# Altium footprint library LED.PcbLib: 5 footprints
Each footprint in its own frame and in the unit in brackets; x right, y up, seen from the top. Pads: shape width x height; smd on the part's side, far side on the other; paste and mask are expansions set on the pad; w line width, h text height; cw(c..) or ccw(c..) is an arc to the next point about the centre after c.
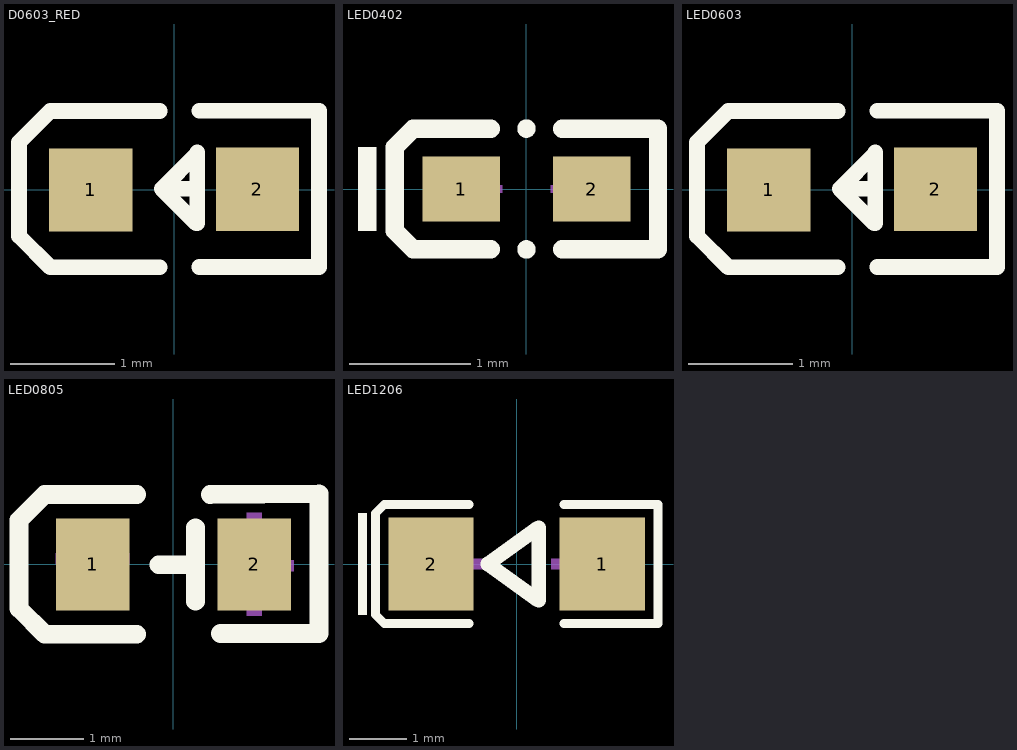
[diagram p0: the footprints below, top view; thin cyan lines are the x and y axes]

## D0603_RED [mm]
pads (2):
  rect 0.8x0.8 smd paste+0 mask+0.051: 1(-0.799,-0.004) 2(0.799,0.004)
Top Overlay:
  lines w0.15: -0.14,-0.746 -1.19,-0.746 -1.49,-0.446 -1.49,-0.346 -1.49,0.354 -1.49,0.454 -1.19,0.754 -0.14,0.754 ; 0.22,0.007 -0.12,0.007 ; 0.24,-0.744 1.39,-0.744 ; 0.24,0.757 1.39,0.757 1.39,-0.723 ; -0.12,0.007 0.21,-0.324 0.22,-0.324 0.22,0.357 0.22,0.347 -0.12,0.007
Mechanical 15:
  region: 0.529,0.068 1.069,0.068 1.069,-0.062 0.529,-0.062
  region: 0.735,-0.267 0.735,0.273 0.865,0.273 0.865,-0.267
  region: -1.07,0.061 -0.53,0.061 -0.53,-0.069 -1.07,-0.069
3D body "LED_0603_RED.step": height 0.55, standoff 0, extent -0.8,-0.4 0.8,0.4

## LED0402 [mm]
pads (2):
  rect 0.636x0.54 smd paste-100 mask+0.051: 1(-0.538,0) 2(0.538,0)
Top Overlay:
  circle w0.076: c0,0.499 r0.038
  circle w0.076: c0,-0.499 r0.038
  region: -1.237,-0.346 -1.237,0.346 -1.39,0.346 -1.39,-0.346
  lines w0.152: -0.296,-0.499 -0.933,-0.499 -1.085,-0.346 -1.085,0.346 -0.933,0.499 -0.296,0.499 ; 0.296,-0.499 1.085,-0.499 1.085,0.499 0.296,0.499
Top Paste:
  region: -0.198,-0.23 -0.198,0.23 -0.238,0.27 -0.816,0.27 -0.856,0.23 -0.856,-0.23 -0.816,-0.27 -0.238,-0.27
  region: 0.198,-0.23 0.198,0.23 0.238,0.27 0.816,0.27 0.856,0.23 0.856,-0.23 0.816,-0.27 0.238,-0.27
Mechanical 15:
  region: 0.35,-0.2 0.35,0.2 0.29,0.2 0.29,-0.2
  region: 0.44,-0.03 0.44,0.03 0.2,0.03 0.2,-0.03
  region: -0.44,-0.03 -0.44,0.03 -0.2,0.03 -0.2,-0.03
3D body "LED0402.STEP": height 0.5, standoff 0, extent -0.5,-0.25 0.5,0.25

## LED0603 [mm]
pads (2):
  rect 0.8x0.8 smd paste+0 mask+0.051: 1(-0.799,-0.004) 2(0.799,0.004)
Top Overlay:
  lines w0.15: -0.14,-0.746 -1.19,-0.746 -1.49,-0.446 -1.49,-0.346 -1.49,0.354 -1.49,0.454 -1.19,0.754 -0.14,0.754 ; 0.22,0.007 -0.12,0.007 ; 0.24,-0.744 1.39,-0.744 ; 0.24,0.757 1.39,0.757 1.39,-0.723 ; -0.12,0.007 0.22,0.347 0.22,0.357 0.22,-0.324 0.21,-0.324 -0.12,0.007
Mechanical 15:
  region: -1.07,0.061 -0.53,0.061 -0.53,-0.069 -1.07,-0.069
  region: 0.735,-0.267 0.735,0.273 0.865,0.273 0.865,-0.267
  region: 0.529,0.068 1.069,0.068 1.069,-0.062 0.529,-0.062
3D body "LED0603.STEP": height 0.7, standoff 0, extent -0.8,-0.419 0.8,0.381

## LED0805 [mm]
pads (2):
  rect 1x1.25 smd paste+0 mask+0.051: 1(-1.1,0) 2(1.1,0)
Top Overlay:
  lines w0.254: -0.5,-0.95 -1.75,-0.95 ; -0.5,0.95 -1.75,0.95 ; -0.2,-0.005 0.3,-0.005 ; 0.3,-0.5 0.3,0.5 ; 0.5,0.95 1.98,0.96 1.98,-0.94 0.64,-0.94 ; -1.75,-0.95 -1.75,-0.95 ; -1.75,-0.95 -2.1,-0.6 -2.1,0.6 -1.75,0.95 ; -1.75,0.95 -1.75,0.95
Mechanical 15:
  region: 1,0.7 1.2,0.7 1.2,-0.7 1,-0.7
  region: 0.635,-0.094 1.635,-0.094 1.635,0.056 0.635,0.056
  region: -1.6,0 -0.6,0 -0.6,0.15 -1.6,0.15
3D body "LED0805.STEP": height 0.7, standoff 0, extent -1,-0.625 1,0.625

## LED1206 [mm]
pads (2):
  rect 1.485x1.62 smd paste-100 mask+0.051: 1(1.493,0) 2(-1.493,0)
Top Overlay:
  region: -2.616,-0.886 -2.616,0.886 -2.768,0.886 -2.768,-0.886
  lines w0.152: -0.826,-1.039 -2.311,-1.039 -2.464,-0.886 -2.464,0.886 -2.311,1.039 -0.826,1.039 ; 0.826,-1.039 2.464,-1.039 2.464,1.039 0.826,1.039
  lines w0.254: 0.381,-0.635 -0.508,0 0.381,0.635 ; 0.381,-0.635 0.381,0.635 ; 0.381,-0.635 0.381,0.635
Top Paste:
  region: -0.75,-0.71 -0.75,-0.375 -0.85,-0.275 -1.155,-0.275 -1.255,-0.175 -1.255,0.175 -1.155,0.275 -0.85,0.275 -0.75,0.375 -0.75,0.71 -0.85,0.81 -2.135,0.81 -2.235,0.71 -2.235,-0.71 -2.135,-0.81 -0.85,-0.81
  region: 0.75,-0.71 0.75,-0.375 0.85,-0.275 1.155,-0.275 1.255,-0.175 1.255,0.175 1.155,0.275 0.85,0.275 0.75,0.375 0.75,0.71 0.85,0.81 2.135,0.81 2.235,0.71 2.235,-0.71 2.135,-0.81 0.85,-0.81
Mechanical 15:
  region: 1.05,-0.6 1.05,0.6 0.87,0.6 0.87,-0.6
  region: 1.32,-0.09 1.32,0.09 0.6,0.09 0.6,-0.09
  region: -1.32,-0.09 -1.32,0.09 -0.6,0.09 -0.6,-0.09
3D body "LED1206.STEP": height 1.1, standoff 0, extent -1.6,-0.8 1.6,0.8